# Altium schematic symbol library Useful.SchLib: 7 symbols
Pins are listed as number, name and electrical type; pins without a type are passive.

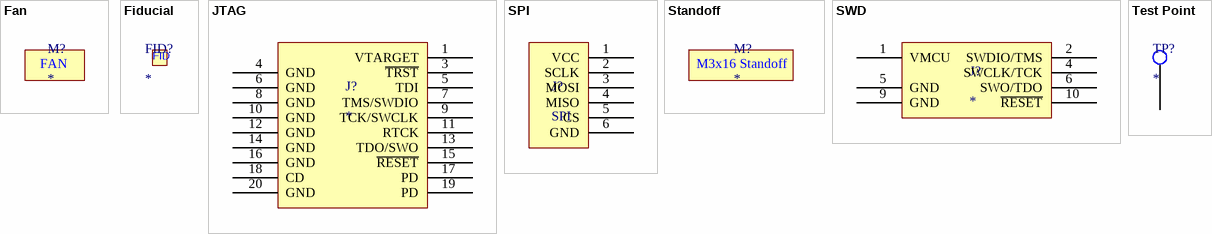
[diagram p0: symbols Fan to Test Point]

## Fan
designator M?
footprint 40MM Fan
text: FAN

## Fiducial
designator FID?  (no BOM)
footprint Fiducial
text: FID

## JTAG
designator J?  (no BOM)
footprint 10 PIN JTAG
pins: 1 VTARGET, 3 ~{TRST}, 4 GND, 5 TDI, 6 GND, 7 TMS/SWDIO, 8 GND, 9 TCK/SWCLK, 10 GND, 11 RTCK, 12 GND, 13 TDO/SWO, 14 GND, 15 ~{RESET}, 16 GND, 17 PD, 18 CD, 19 PD, 20 GND

## SPI
designator J?
footprint SPI Breakout (Flash Connection Point)
pins: 1 VCC, 2 SCLK, 3 MOSI, 4 MISO, 5 CS, 6 GND

## Standoff
designator M?
footprint M3x16 M-F Standoff
footprint M3x12.7 M-F Standoff
text: M3x16 Standoff

## SWD
designator J?  (no BOM)
footprint 10 Pin SWD
pins: 1 VMCU, 2 SWDIO/TMS, 4 SWCLK/TCK, 5 GND, 6 SWO/TDO, 9 GND, 10 ~{RESET}

## Test Point
designator TP?  (no BOM)
footprint Test Point
pins: 1 TP